# EAGLE library part WE-3-WAY_MULTILINE (library wuerth-elektronik)
Multiline EMI Suppression Ferrite - Filter for common mode or differential mode - High rated current with typ. 4 A -- Perfect suitable for absorption of common or differential mode interferences in the field of EMC -- High current DC output filters of power supplies e.g. battery chargers, industrial power supplies
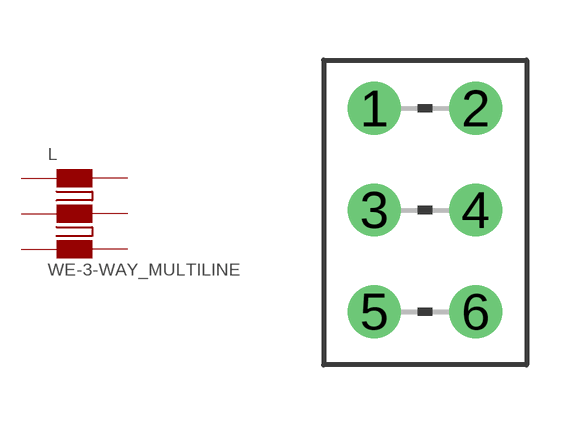
[diagram p1: symbol with the pads of WE-3WAY_74273001; footprint WE-3WAY_74273001]

Designator prefix L

## WE-3-WAY_MULTILINE  [WE-3WAY_74273001]
1  1  pas
2  2  pas
3  3  pas
4  4  pas
5  5  pas
6  6  pas

## Footprint WE-3WAY_74273001 (pad centres in mm)
Multiline Ferrite 3-way
drill 0.813: 1 -1.27,2.54; 2 1.27,2.54; 3 -1.27,0; 4 1.27,0; 5 -1.27,-2.54; 6 1.27,-2.54